# EAGLE library part MICROSD-7T-DET (library sd_card)
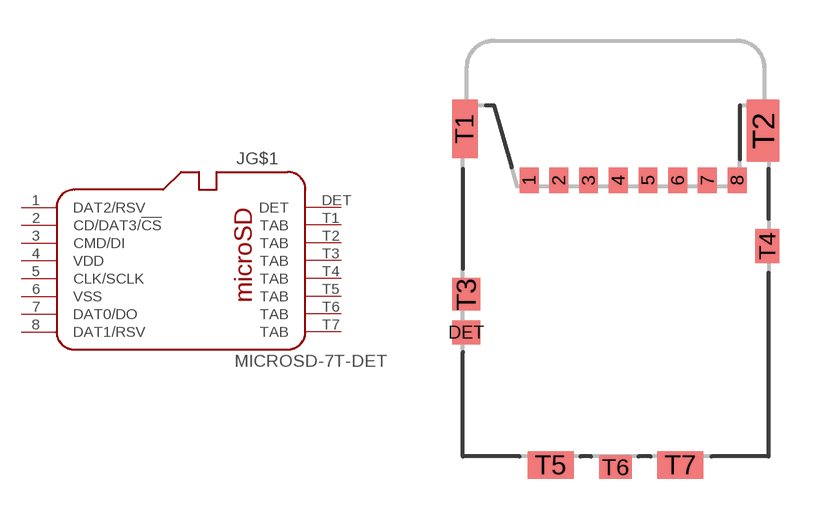
[diagram p1: symbol with the pads of MOLEX_504077-1891; footprint MOLEX_504077-1891]

Designator prefix J; gates G$1=MICROSD G$2=TAB G$3=TAB G$4=TAB G$5=TAB G$6=TAB G$7=TAB G$8=TAB G$9=DET

## MICROSD-7T-DET504077  [MOLEX_504077-1891]
1  G$1:DAT2/RSV
2  G$1:CD/DAT3/!CS
3  G$1:CMD/DI
4  G$1:VDD  pwr
5  G$1:CLK/SCLK  in
6  G$1:VSS  pwr
7  G$1:DAT0/DO
8  G$1:DAT1/RSV
DET  G$9:DET  pas
T1  G$8:TAB  pas
T2  G$7:TAB  pas
T3  G$6:TAB  pas
T4  G$5:TAB  pas
T5  G$4:TAB  pas
T6  G$3:TAB  pas
T7  G$2:TAB  pas

## Footprint MOLEX_504077-1891 (pad centres in mm)
Molex MicroSD Connector, Push/Pull, SMD, w/ detect switch.
smd 0.7 x 0.95: 1 -3.2,-2.775; 2 -2.1,-2.775; 3 -1,-2.775; 4 0.1,-2.775; 5 1.2,-2.775; 6 2.3,-2.775; 7 3.4,-2.775; 8 4.5,-2.775
smd 1.05 x 0.9: DET -5.525,-8.41
smd 0.95 x 2.17: T1 -5.575,-0.875
smd 1.19 x 2.3: T2 5.455,-0.94
smd 1.05 x 1.2: T3 -5.525,-7
smd 0.88 x 1.25: T4 5.61,-5.215
smd 1.7 x 1.03: T5 -2.4,-13.325; T7 2.4,-13.325
smd 1.2 x 0.88: T6 0,-13.4